# EAGLE library part MK20DX128VFM5 (library MK20DX128VFM5)
Kinetis K20: 50MHz Cortex-M4 Performance MCU, 160KB Flash, 16KB SRAM, Full-Speed USB, 32-QFN
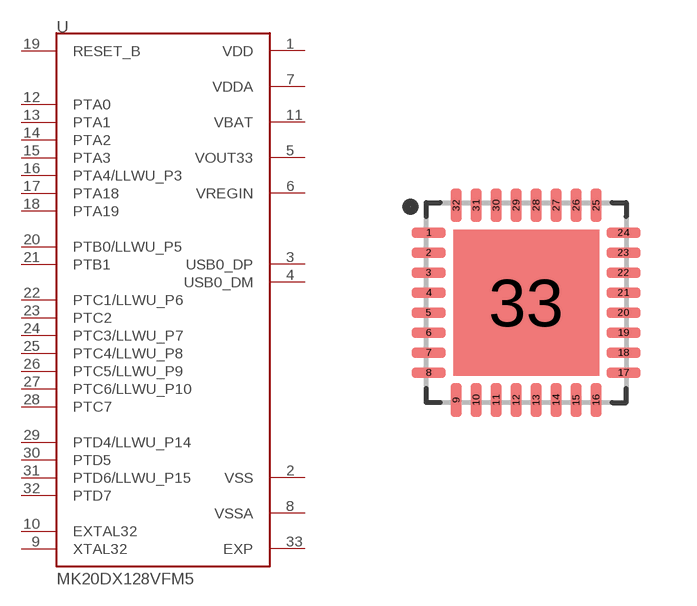
[diagram p0: symbol with the pads of QFN50P500X500X100-33N; footprint QFN50P500X500X100-33N]

Designator prefix U

## MK20DX128VFM5 (Description: MCU 32-bit Kinetis K20 ARM Cortex M4 RISC 128KB Flash 1.8V/2.5V/3.3V 32-Pin QFN EP Tray; Digi-Key_Part_Number: MK20DX128VFM5-ND; Digi-Key_Purchase_URL: https://www.digikey.com/product-detail/en/nxp-usa-inc/MK20DX128VFM5/MK20DX128VFM5-ND/3507507?utm_source=snapeda&utm_medium=aggregator&utm_campaign=symbol; MF: MikroElektronika; MP: MK20DX128VFM5; Package: QFN-32 Freescale Semiconductor)  [QFN50P500X500X100-33N]
1  VDD  pwr
2  VSS  pwr
3  USB0_DP
4  USB0_DM
5  VOUT33  pwr
6  VREGIN  pwr
7  VDDA  pwr
8  VSSA  pwr
9  XTAL32  out
10  EXTAL32  in
11  VBAT  pwr
12  PTA0
13  PTA1
14  PTA2
15  PTA3
16  PTA4/LLWU_P3
17  PTA18
18  PTA19
19  RESET_B  in
20  PTB0/LLWU_P5
21  PTB1
22  PTC1/LLWU_P6
23  PTC2
24  PTC3/LLWU_P7
25  PTC4/LLWU_P8
26  PTC5/LLWU_P9
27  PTC6/LLWU_P10
28  PTC7
29  PTD4/LLWU_P14
30  PTD5
31  PTD6/LLWU_P15
32  PTD7
33  EXP  pas

## Footprint QFN50P500X500X100-33N (pad centres in mm)
smd 0.84 x 0.26: 1 -2.435,1.75; 2 -2.435,1.25; 3 -2.435,0.75; 4 -2.435,0.25; 5 -2.435,-0.25; 6 -2.435,-0.75; 7 -2.435,-1.25; 8 -2.435,-1.75; 17 2.435,-1.75; 18 2.435,-1.25; 19 2.435,-0.75; 20 2.435,-0.25; 21 2.435,0.25; 22 2.435,0.75; 23 2.435,1.25; 24 2.435,1.75
smd 0.26 x 0.84: 9 -1.75,-2.435; 10 -1.25,-2.435; 11 -0.75,-2.435; 12 -0.25,-2.435; 13 0.25,-2.435; 14 0.75,-2.435; 15 1.25,-2.435; 16 1.75,-2.435; 25 1.75,2.435; 26 1.25,2.435; 27 0.75,2.435; 28 0.25,2.435; 29 -0.25,2.435; 30 -0.75,2.435; 31 -1.25,2.435; 32 -1.75,2.435
smd 3.65 x 3.65: 33 0,0